# EAGLE library part INA219 (library miller)
INA219 Current/Power Monitor with I2C interface Texas Instruments
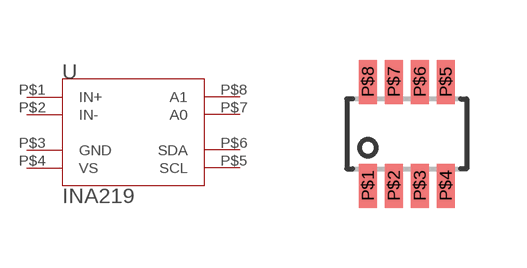
[diagram p38: symbol with the pads of SOT23-8; footprint SOT23-8]

Designator prefix -

## INA219SOT23-8  [SOT23-8]
P$1  IN+
P$2  IN-
P$3  GND  pwr
P$4  VS  pwr
P$5  SCL
P$6  SDA
P$7  A0
P$8  A1

## Footprint SOT23-8 (pad centres in mm)
SOT-23-8
smd 0.45 x 1.1: P$1 -0.975,-1.3; P$2 -0.325,-1.3; P$3 0.325,-1.3; P$4 0.975,-1.3; P$5 0.975,1.3; P$6 0.325,1.3; P$7 -0.325,1.3; P$8 -0.975,1.3